# Altium footprint library nanoSIM_CH03-KB.PcbLib: 1 footprints
Each footprint in its own frame and in the unit in brackets; x right, y up, seen from the top. Pads: shape width x height; smd on the part's side, far side on the other; paste and mask are expansions set on the pad; w line width, h text height; cw(c..) or ccw(c..) is an arc to the next point about the centre after c.
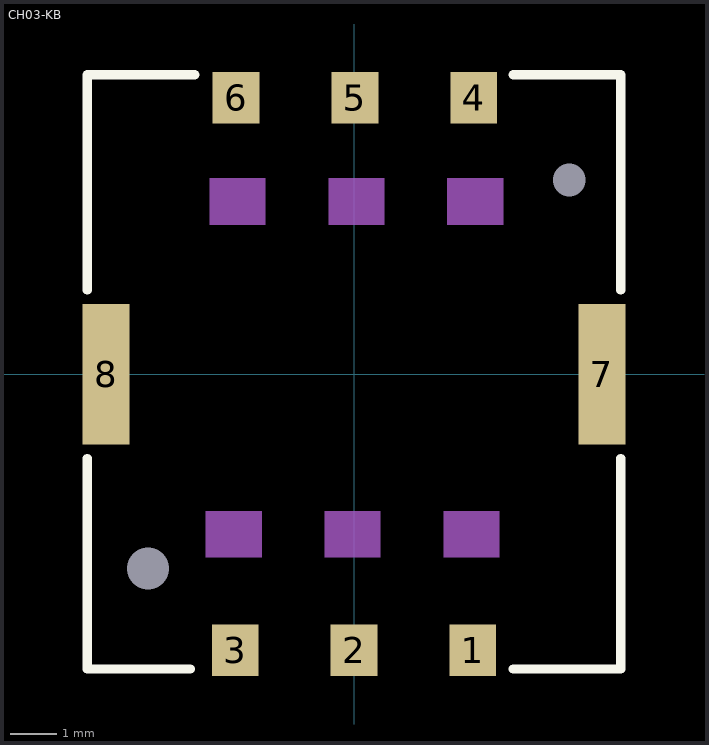
[diagram p0: the footprint, top view; thin cyan lines are the x and y axes]

## CH03-KB [mm] "Nano SIM Card Connector"
height 1.35
pads (10):
  rect 1x1.1 smd: 1(2.54,-5.9) 2(0,-5.9) 3(-2.54,-5.9) 4(2.56,5.91) 5(0.02,5.91) 6(-2.52,5.91)
  rect 1x3 smd: 7(5.3,0) 8(-5.3,0)
  round 0 hole 0.9 unplated: ""(-4.4,-4.15)
  round 0 hole 0.7 unplated: ""(4.6,4.15)
Top Overlay:
  lines w0.2: -5.7,-1.8 -5.7,-6.3 -3.5,-6.3 ; -5.7,1.8 -5.7,6.2 -5.7,6.4 -3.4,6.4 ; 3.4,-6.3 5.7,-6.3 5.7,-1.8 ; 3.4,6.4 5.7,6.4 5.7,1.8
Mechanical 1:
  rectangle: -0.55,3.19 0.65,4.19
  rectangle: 1.99,3.19 3.19,4.19
  rectangle: -3.09,3.19 -1.89,4.19
  region: 3.11,-2.92 1.91,-2.92 1.91,-3.92 3.11,-3.92
  region: -1.97,-2.92 -3.17,-2.92 -3.17,-3.92 -1.97,-3.92
  region: 0.57,-2.92 -0.63,-2.92 -0.63,-3.92 0.57,-3.92
3D body "CH03-KB060-HAR_rev1.1.STEP": height 1.35, standoff -0.4, extent -5.43,-6.1 5.41,6.1